# Altium integrated library Motor_Driver_Model_D203.IntLib: 48 symbols (part 2 of 2)
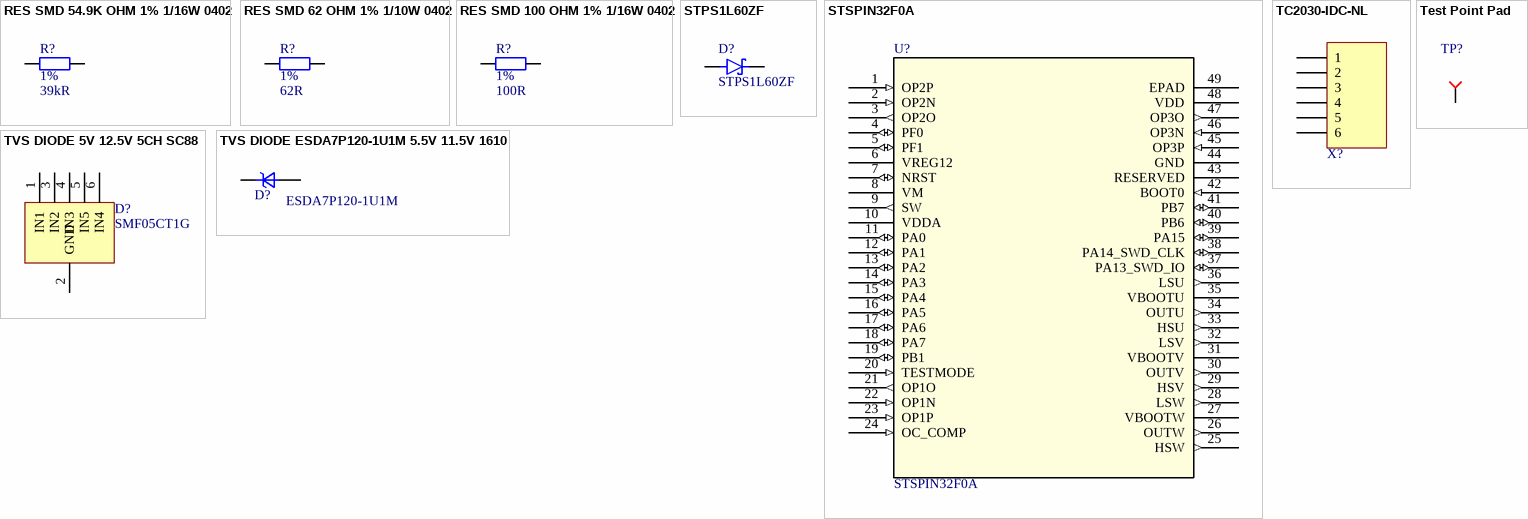
[diagram p2: symbols RES SMD 54.9K OHM 1% 1/16W 0402 to TVS DIODE ESDA7P120-1U1M 5.5V 11.5V 1610]

## RES SMD 62 OHM 1% 1/10W 0402
designator R?  Tolerance: 1%  Resistance: 62R  (hidden comment: RES SMD 62 OHM 1% 1/10W 0402)
62 Ohms ±1% 0.1W, 1/10W Chip Resistor 0402 (1005 Metric) Moisture Resistant Thick Film; Manufacturer: Panasonic Electronic Components; Manufacturer Part Number: ERJ-U02F62R0X; Power Rating: 100mW; Voltage Rating: 50V; Temperature Coefficient: 200ppm/°C; Stock 1: 453897; Pricing 1: 1=0.1, 10=0.015, 100=0.0062, 1000=0.0028, 2500=0.0024, 5000=0.002 (USD); Case/Package: 0402; Case Code (Imperial): 0402; Case Code (Metric): 1005; Min Operating Temperature: -55°C; Max Operating Temperature: 155°C; Packaging: Tape and Reel; Termination: SMD/SMT; Composition: Thick Film; Military Standard: Not; Length: 1mm; Height: 0.016inch; Width: 0.02inch; Depth: 0.5mm; Lead Free: Lead Free; Contact Plating: Tin,Matte; Number of Terminations: 2; Max Power Dissipation: 100mW; Features: Moisture Resistant; Mount: Surface Mount; ComponentLink1Description: https://industrial.panasonic.com/cdbs/www-data/pdf/RDP0000/AOA0000C334.pdf; ComponentLink1URL: https://industrial.panasonic.com/cdbs/www-data/pdf/RDP0000/AOA0000C334.pdf; Supplier 1: Digi-Key; Supplier Part Number 1: 10-ERJ-U02F62R0XCT-ND
footprint R0402
pins: 1, 2

## RES SMD 100 OHM 1% 1/16W 0402
designator R?  Tolerance: 1%  Resistance: 100R  (hidden comment: RES SMD 100 OHM 1% 1/16W 0402)
100 Ohms ±1% 0.063W, 1/16W Chip Resistor 0402 (1005 Metric) Moisture Resistant Thick Film; Manufacturer: Yageo; Manufacturer Part Number: RC0402FR-07100RL; Power Rating: 62.5mW; Voltage Rating: 50V; Temperature Coefficient: 100ppm/°C; Supplier 1: Digi-Key; Stock 1: 16989760; Pricing 1: 1=0.1, 10=0.016, 100=0.0064, 1000=0.0029, 2500=0.0025, 5000=0.0021 (USD); Case/Package: 0402; Number of Pins: 2; Case Code (Imperial): 0402; Case Code (Metric): 1005; Min Operating Temperature: -55°C; Max Operating Temperature: 155°C; Voltage Rating (DC): 50V; Packaging: Tape and Reel; Termination: SMD/SMT; Composition: Thick Film; Military Standard: Not; Length: 1mm; Height: 0.32mm; Width: 0.5mm; Depth: 0.5mm; REACH SVHC: No SVHC; Lead Free: Lead Free; ComponentLink1URL: http://www.farnell.com/datasheets/2167052.pdf?src-supplier=Element14; ComponentLink1Description: http://www.farnell.com/datasheets/2167052.pdf?src-supplier=Element14; ComponentLink2URL: http://www.yageo.com/documents/recent/PYu-RC_Group_51_RoHS_L_9.pdf?src-supplier=Mouser; ComponentLink2Description: http://www.yageo.com/documents/recent/PYu-RC_Group_51_RoHS_L_9.pdf?src-supplier=Mouser; ComponentLink3URL: http://www.yageo.com/documents/recent/PYu-RC0402_51_RoHS_L_6_r.pdf?src-supplier=Future+Electronics; ComponentLink3Description: http://www.yageo.com/documents/recent/PYu-RC0402_51_RoHS_L_6_r.pdf?src-supplier=Future+Electronics; ComponentLink4URL: https://www.verical.com/server-webapp/html/getDatasheet?partID=329466&src-supplier=Verical; ComponentLink4Description: https://www.verical.com/server-webapp/html/getDatasheet?partID=329466&src-supplier=Verical; ComponentLink5URL: http://www.farnell.com/datasheets/1018594.pdf?src-supplier=Element14; ComponentLink5Description: http://www.farnell.com/datasheets/1018594.pdf?src-supplier=Element14; ComponentLink6URL: http://documents.rs-components.com/techlib://itc_doclist_GB.htm?stockno=6185810&src-supplier=RSComponents; ComponentLink6Description: http://documents.rs-components.com/techlib://itc_doclist_GB.htm?stockno=6185810&src-supplier=RSComponents; Supplier Part Number 1: 311-100LRDKR-ND; Mount: Surface Mount
footprint 0402R
footprint R0402
pins: 1, 2

## STPS1L60ZF
designator D?
Diode Schottky 60V 1A Surface Mount SOD-123F; Manufacturer: STMicroelectronics; Package: SOD-123F; Supplier 1: Digi-Key; Supplier Part Number 1: 497-17154-1-ND; Manufacturer Part Number: STPS1L60ZF; Datasheet: https://www.st.com/content/ccc/resource/technical/document/datasheet/group1/7e/b6/29/85/66/15/45/f3/CD00002285/files/CD00002285.pdf/jcr:content/translations/en.CD00002285.pdf
footprint DIO_STPS1L60ZF
pins: 1 K, 2 A

## STSPIN32F0A
designator U?
No Description Available; Manufacturer: STMicroelectronics; Built_By: EMA_Jessica; SourceLibrary: Update_to_database_2020-12-04; EVAL Kit: STEVAL-SPIN3202; Manufacturer Part Number: STSPIN32F0A; Copyright: Copyright (C) 2018 Accelerated Designs. All rights reserved; ComponentLink1Description: Datasheet; ComponentLink1URL: https://www.google.com/url?sa=t&rct=j&q=&esrc=s&source=web&cd=&ved=2ahUKEwjgwpfom8rwAhVUb30KHfxED0oQFjAAegQIBhAD&url=https%3A%2F%2Fwww.st.com%2Fresource%2Fen%2Fdatasheet%2Fstspin32f0a.pdf&usg=AOvVaw3no-3pqo9JeAS3_K3kXbhn; Supplier 1: Newark; Supplier Part Number 1: 43AC0300; ComponentLink2Description: Evaluation Board Schematic; ComponentLink2URL: https://www.st.com/content/ccc/resource/technical/layouts_and_diagrams/schematic_pack/group0/a9/20/bf/a8/9b/aa/43/2b/STEVAL-SPIN3202_schematics/files/steval-spin3202_schematic.pdf/jcr:content/translations/en.steval-spin3202_schematic.pdf
footprint VFQFPN-48_7x7x1mm_STM
pins: 1 OP2P (in), 2 OP2N (in), 3 OP2O (out), 4 PF0 (io), 5 PF1 (io), 6 VREG12 (power), 7 NRST (io), 8 VM (power), 9 SW (out), 10 VDDA (power), 11 PA0 (io), 12 PA1 (io), 13 PA2 (io), 14 PA3 (io), 15 PA4 (io), 16 PA5 (io), 17 PA6 (io), 18 PA7 (io), 19 PB1 (io), 20 TESTMODE (in), 21 OP1O (out), 22 OP1N (in), 23 OP1P (in), 24 OC_COMP (in), 25 HSW (out), 26 OUTW (out), 27 VBOOTW (power), 28 LSW (out), 29 HSV (out), 30 OUTV (out), 31 VBOOTV (power), 32 LSV (out), 33 HSU (out), 34 OUTU (out), 35 VBOOTU (power), 36 LSU (out), 37 PA13_SWD_IO (io), 38 PA14_SWD_CLK (io), 39 PA15 (io), 40 PB6 (io), 41 PB7 (io), 42 BOOT0 (in), 43 RESERVED, 44 GND (power), 45 OP3P (in), 46 OP3N (in), 47 OP3O (out), 48 VDD (power), 49 EPAD

## TC2030-IDC-NL
designator X?  (no BOM)
Tag-Connect TC2030-MCP-NL (3x2 pins No Legs); Manufacturer: Tag-Connect LLC; Manufacturer Part Number: TC2030-IDC-NL
footprint TC2030-IDC-NL (Tag-Connect 6-Pin with No Legs (PN# TC2030-IDC-NL))
pins: 1, 2, 3, 4, 5, 6

## Test Point Pad
designator TP?  (value not drawn)  (no BOM)
Test Point. There is nothing to buy or mount.; ClassName: TestPoint; CompType: TestPoint; Manufacturer: N/A; MountType: N/A; PackageReference: TetsPoint; PartNumber: N/A
footprint Testpoint (Test Point)
pins: 1

## TVS DIODE 5V 12.5V 5CH SC88
designator D?, comment SMF05CT1G
12.5V Clamp 8A (8/20µs) Ipp Tvs Diode Surface Mount SC-88/SC70-6/SOT-363; Manufacturer: ON Semiconductor; Capacitance: 130pF; Direction: Unidirectional; Reverse Breakdown Voltage: 6.2V; Number of Elements: 5; Reverse Standoff Voltage: 5V; Peak Pulse Power: 100W; Power Line Protection: No; Leakage Current: 5uA; Test Current: 1mA; ESD Protection: Yes; Max Breakdown Voltage: 7.2V; Element Configuration: Common Anode; Supplier 1: Digi-Key; Manufacturer Part Number: SMF05CT1G; Stock 1: 33811; Pricing 1: 1=0.41, 10=0.307, 25=0.2768, 100=0.1459, 250=0.1444, 500=0.1293, 1000=0.1006 (USD); Case/Package: SC; Number of Pins: 6; Min Operating Temperature: -40°C; Max Operating Temperature: 125°C; Packaging: Tape and Reel; Number of Channels: 5; Min Breakdown Voltage: 6.2V; Clamping Voltage: 12.5V; Peak Pulse Current: 8A; Polarity: Unidirectional; Working Voltage: 5V; Max Reverse Leakage Current: 5uA; Max Power Dissipation: 100W; Breakdown Voltage: 6.2V; Voltage Rating (DC): 5V; Length: 2mm; Height: 1mm; Width: 1.25mm; Depth: 1.25mm; Radiation Hardening: No; REACH SVHC: No SVHC; Lead Free: Lead Free; ComponentLink1URL: http://www.farnell.com/datasheets/1708354.pdf?src-supplier=Element14; ComponentLink1Description: http://www.farnell.com/datasheets/1708354.pdf?src-supplier=Element14; ComponentLink2URL: http://www.onsemi.com/pub/Collateral/SMF05C-D.PDF?src-supplier=Digi-Key; ComponentLink2Description: http://www.onsemi.com/pub/Collateral/SMF05C-D.PDF?src-supplier=Digi-Key; ComponentLink3URL: http://www.mouser.com/ds/2/308/SMF05C-D-100912.pdf?src-supplier=Mouser; ComponentLink3Description: http://www.mouser.com/ds/2/308/SMF05C-D-100912.pdf?src-supplier=Mouser; ComponentLink4URL: http://www.onsemi.com/pub/Collateral/SMF05C-D.PDF?src-supplier=Avnet; ComponentLink4Description: http://www.onsemi.com/pub/Collateral/SMF05C-D.PDF?src-supplier=Avnet; ComponentLink5URL: https://www.verical.com/server-webapp/html/getDatasheet?partID=98371&src-supplier=Verical; ComponentLink5Description: https://www.verical.com/server-webapp/html/getDatasheet?partID=98371&src-supplier=Verical; Supplier Part Number 1: SMF05CT1GOSCT-ND; Contact Plating: Tin,Matte; Package Quantity: 1; Max Surge Current: 8A; Number of Unidirectional Channels: 5; Termination: SMD/SMT; Power Dissipation: 100W; Max Output Current: 8A; Composition: Zener; Mount: Surface Mount
footprint SOT363_SOP65P210X265-6N (SOP, 6-Leads, Body 2.00x1.25mm, Pitch 0.65mm, IPC Medium Density)
pins: 1 IN1, 2 GND (power), 3 IN2, 4 IN3, 5 IN5, 6 IN4

## TVS DIODE ESDA7P120-1U1M 5.5V 11.5V 1610
designator D?, comment ESDA7P120-1U1M
11.5V Clamp 120A (8/20µs) Ipp Tvs Diode Surface Mount 1610; Manufacturer: STMicroelectronics; Number of Unidirectional Channels: 1; Reverse Standoff Voltage: 5.5V; Min Breakdown Voltage: 6.4V; Peak Pulse Power: 1.4kW; Power Line Protection: No; Supplier 1: Digi-Key; Manufacturer Part Number: ESDA7P120-1U1M; Stock 1: 15775; Pricing 1: 1=0.35, 10=0.287, 25=0.2624, 100=0.1647, 250=0.1629, 500=0.1525, 1000=0.1037, 2500=0.0994 (USD); Mount: Surface Mount; Case/Package: 0603; Case Code (Imperial): 0603; Case Code (Metric): 1610; Min Operating Temperature: -55°C; Max Operating Temperature: 150°C; Composition: Zener; Packaging: Cut Tape; Clamping Voltage: 11.5V; Peak Pulse Current: 120A; ComponentLink1URL: http://www.st.com/content/ccc/resource/technical/document/datasheet/group3/5e/7c/5d/76/3f/de/45/35/DM00359316/files/DM00359316.pdf/jcr:content/translations/en.DM00359316.pdf?src-supplier=Digi-Key; ComponentLink1Description: http://www.st.com/content/ccc/resource/technical/document/datasheet/group3/5e/7c/5d/76/3f/de/45/35/DM00359316/files/DM00359316.pdf/jcr:content/translations/en.DM00359316.pdf?src-supplier=Digi-Key; ComponentLink2URL: http://www.farnell.com/datasheets/2815837.pdf?src-supplier=Newark; ComponentLink2Description: http://www.farnell.com/datasheets/2815837.pdf?src-supplier=Newark; ComponentLink3URL: http://www.farnell.com/datasheets/2815837.pdf?src-supplier=Farnell; ComponentLink3Description: http://www.farnell.com/datasheets/2815837.pdf?src-supplier=Farnell; ComponentLink4URL: http://www.farnell.com/datasheets/2815837.pdf?src-supplier=Element14; ComponentLink4Description: http://www.farnell.com/datasheets/2815837.pdf?src-supplier=Element14; Supplier Part Number 1: 497-17159-1-ND
footprint ST_QFN_1610 (Footprint not found)
pins: 1 K, 2 A